# EAGLE library part HVDA542QDRQ1 (library VESC_SHIT)
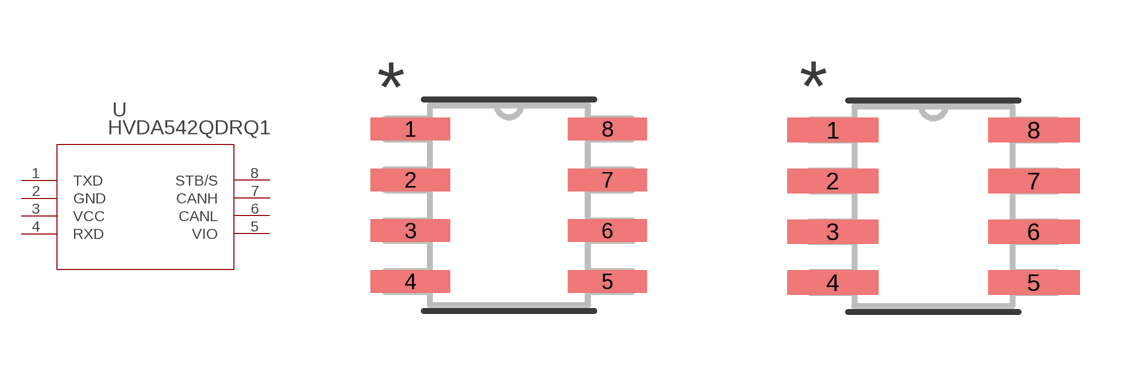
[diagram p0: symbol with the pads of D8; footprints D8, D8-M]

Designator prefix U

## HVDA542QDRQ1 (MANUFACTURER_PART_NUMBER: HVDA542QDRQ1; VENDOR: Texas Instruments)  [D8]
1  TXD  in
2  GND  pwr
3  VCC  pwr
4  RXD  out
5  VIO  pwr
6  CANL
7  CANH
8  STB/S  in

## HVDA542QDRQ1D8-M (MANUFACTURER_PART_NUMBER: HVDA542QDRQ1; VENDOR: Texas Instruments)  [D8-M]
Pads as for D8

## HVDA542QDRQ1D8-L (MANUFACTURER_PART_NUMBER: HVDA542QDRQ1; VENDOR: Texas Instruments)  [D8-L]
Pads as for D8

## Footprint D8 (pad centres in mm)
smd 1.981 x 0.559: 1 -2.464,1.905; 2 -2.464,0.635; 3 -2.464,-0.635; 4 -2.464,-1.905; 5 2.464,-1.905; 6 2.464,-0.635; 7 2.464,0.635; 8 2.464,1.905

## Footprint D8-M (pad centres in mm)
smd 2.286 x 0.61: 1 -2.515,1.905; 2 -2.515,0.635; 3 -2.515,-0.635; 4 -2.515,-1.905; 5 2.515,-1.905; 6 2.515,-0.635; 7 2.515,0.635; 8 2.515,1.905

## Footprint D8-L (pad centres in mm)
smd 1.676 x 0.508: 1 -2.413,1.905; 2 -2.413,0.635; 3 -2.413,-0.635; 4 -2.413,-1.905; 5 2.413,-1.905; 6 2.413,-0.635; 7 2.413,0.635; 8 2.413,1.905